# Altium footprint library SLAYER_Altium_Pcb.PcbLib: 31 footprints (part 2 of 2)
Each footprint in its own frame and in the unit in brackets; x right, y up, seen from the top. Pads: shape width x height; smd on the part's side, far side on the other; paste and mask are expansions set on the pad; w line width, h text height; cw(c..) or ccw(c..) is an arc to the next point about the centre after c.
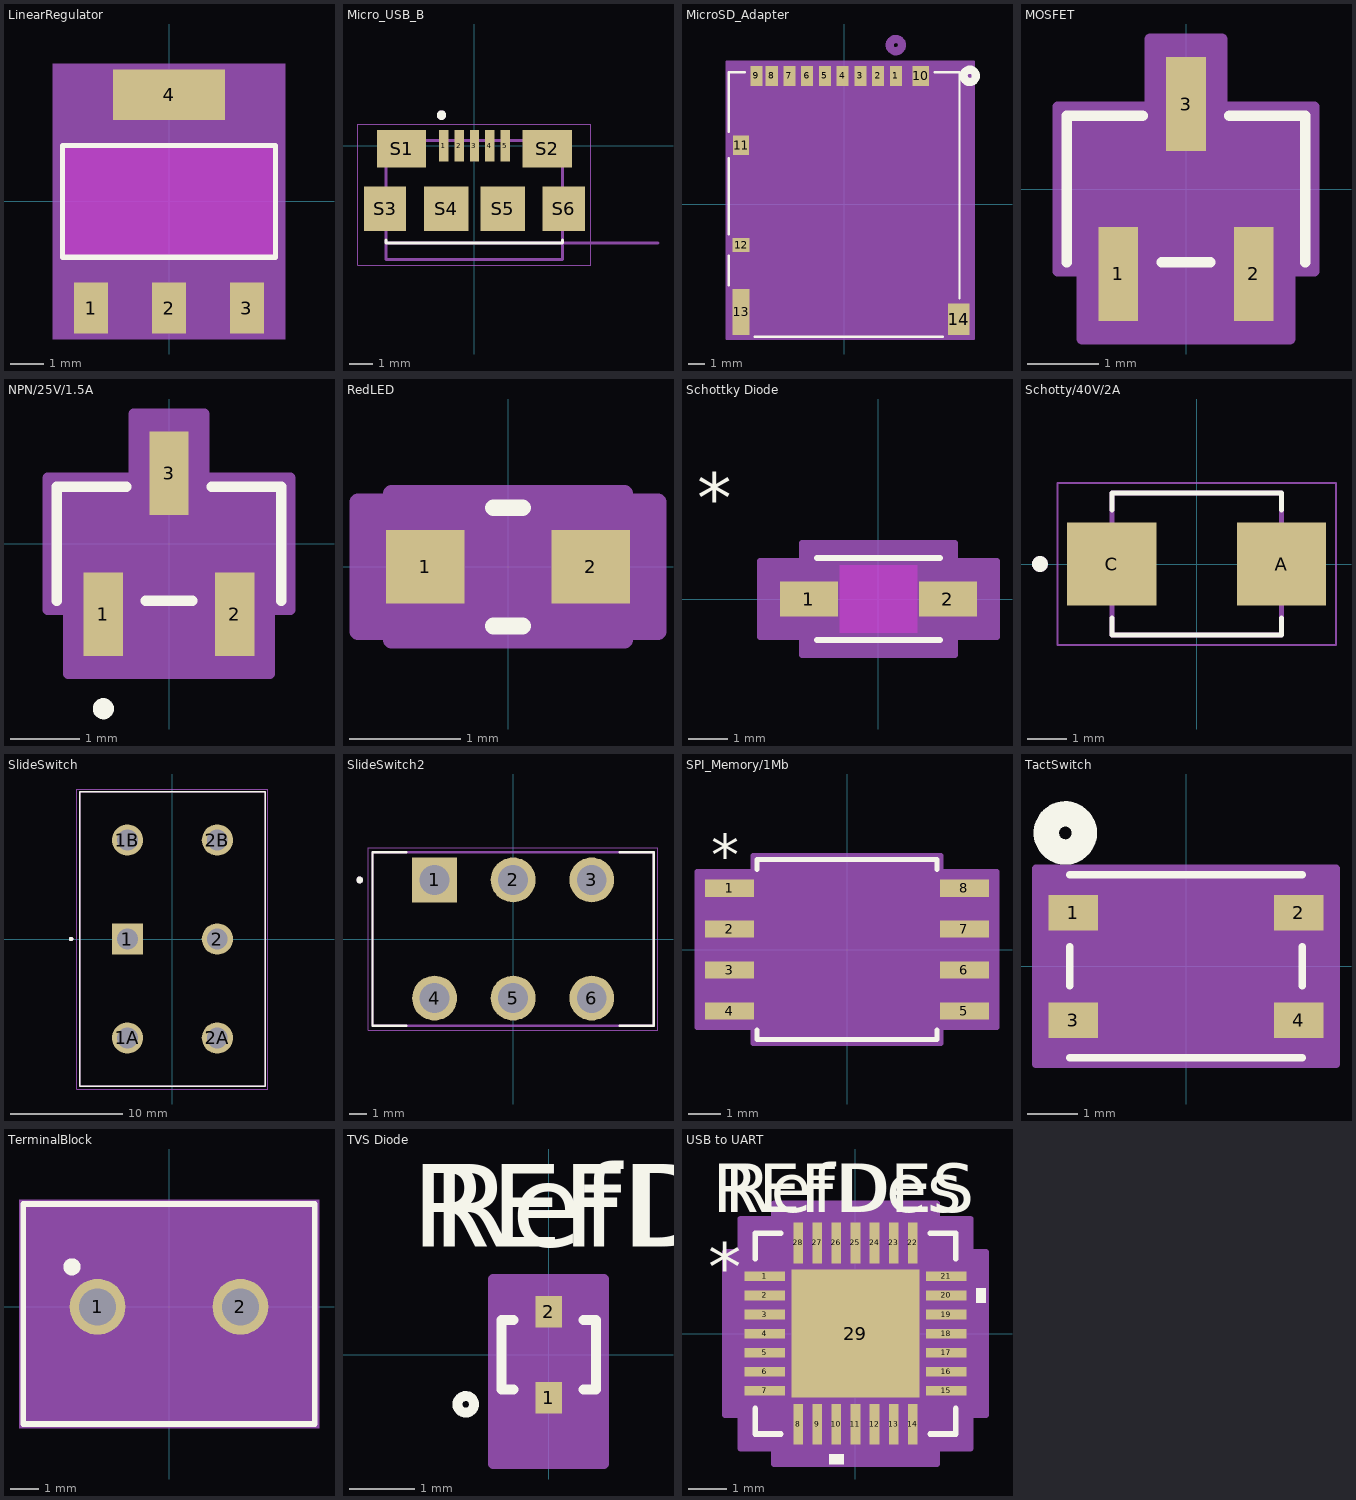
[diagram p1: the footprints below, top view; thin cyan lines are the x and y axes]

## LinearRegulator [mm] "SGM2212-3.3XKC3G/TR"
pads (4):
  rect 1x1.5 smd paste+0 mask+0: 1(-2.3,-3.15) 2(0,-3.15) 3(2.3,-3.15)
  rect 3.3x1.5 smd paste+0 mask+0: 4(0,3.15)
Top Overlay:
  lines w0.152: -3.15,-1.65 3.15,-1.65 3.15,1.65 -3.15,1.65 -3.15,-1.65
Keep-Out Layer:
  rectangle: -3.15,-1.65 3.15,1.65
Mechanical 15:
  region: -3.429,4.064 3.429,4.064 3.429,-4.064 -3.429,-4.064

## Micro_USB_B [mm] "10118192-0002LF"
height 2.8
pads (11):
  rect 0.4x1.35 smd: 1(-1.3,0) 2(-0.65,0) 3(0,0) 4(0.65,0) 5(1.3,0)
  rect 2.1x1.6 smd: S1(-3.1,-0.125) S2(3.1,-0.125)
  rect 1.8x1.9 smd: S3(-3.8,-2.675) S6(3.8,-2.675)
  rect 1.9x1.9 smd: S4(-1.2,-2.675) S5(1.2,-2.675)
Top Overlay:
  circle w0.2: c-1.4,1.3 r0.1
  lines w0.127: -3.75,-4 -3.75,-4.125 3.75,-4.125 3.75,-4
Mechanical 13:
  circle w0.2: c-1.4,1.3 r0.1
  lines w0.127: 7.8,-4.125 3.75,-4.125 ; -3.75,-4.125 3.75,-4.125 ; -3.75,-4.125 -3.75,0.225 3.75,0.225 3.75,-4.125 ; -3.75,-4.125 -3.75,-4.825 3.75,-4.825 3.75,-4.125
  text "PCB Edge" at 5.1,-3.8 h0.41
Mechanical 15:
  lines w0.05: -4.95,-5.075 -4.95,0.925 4.95,0.925 4.95,-5.075 -4.95,-5.075
3D body "step_temp.STEP": height 2.7, standoff 0, extent -3.95,-4.825 3.95,0.275

## MicroSD_Adapter [mm] "DM3AT-SF-PEJM5"
pads (14):
  rect 0.75x1.25 smd paste+0 mask+0: 1(3.2,7.975) 2(2.1,7.975) 3(1,7.975) 4(-0.1,7.975) 5(-1.2,7.975) 6(-2.3,7.975) 7(-3.4,7.975) 8(-4.5,7.975) 9(-5.45,7.975)
  rect 1.05x1.25 smd paste-0.625 mask-0.622: 10(4.75,7.975)
  rect 1x1.2 smd paste-0.6 mask-0.597: 11(-6.4,3.675)
  rect 1.05x0.85 smd paste-0.525 mask-0.521: 12(-6.4,-2.525)
  rect 1.05x2.85 smd paste-1.425 mask-1.422: 13(-6.4,-6.675)
  rect 1.35x1.95 smd paste-0.975 mask-0.978: 14(7.1,-7.125)
Top Overlay:
  circle w0.508: c7.787,7.975 r0.381
  lines w0.152: -7.152,-5.007 -7.152,-3.193 ; -7.152,-1.857 -7.152,2.858 ; -7.152,4.492 -7.152,8.202 -6.158,8.202 ; -5.558,-8.202 6.108,-8.202 ; 5.608,8.202 7.152,8.202 7.152,-5.817
  text ".Designator" at -10.604,9.372 h1.27
Bottom Overlay:
  circle w0.508: c7.787,7.975 r0.381
Mechanical 13:
  circle w0.508: c3.2,9.88 r0.381
  lines w0.025: -7.025,-8.075 -7.025,8.075 7.025,8.075 7.025,-8.075 -7.025,-8.075
  text ".Designator" at -10.604,9.372 h1.27
Mechanical 15:
  region: 8.029,8.854 -7.279,8.854 -7.279,-8.354 8.029,-8.354
  lines w0.152: -7.279,-8.354 8.029,-8.354 8.029,8.854 -7.279,8.854 -7.279,-8.354

## MOSFET [mil] "AO3400A"
pads (3):
  rect 22x52 smd paste+0 mask+0: 1(-37.5,-47) 2(37.5,-47) 3(0,47)
Top Overlay:
  lines w6: -66,-40.5 -66,40.5 -24.1,40.5 ; -13.4,-40.5 13.4,-40.5 ; 24.1,40.5 66,40.5 66,-40.5
  text ".Designator" at -137.5,-25 h50
Mechanical 13:
  lines w1: -61,-35.5 -61,35.5 61,35.5 61,-35.5 -61,-35.5 ; -47.5,-59 -27.5,-59 -27.5,-35.5 -47.5,-35.5 -47.5,-59 ; -10,35.5 -10,59 10,59 10,35.5 -10,35.5 ; 27.5,-59 47.5,-59 47.5,-35.5 27.5,-35.5 27.5,-59
  text ".Designator" at -137.5,-25 h50
Mechanical 15:
  region: -71,-45.5 -71,45.5 -20,45.5 -20,83 20,83 20,45.5 71,45.5 71,-45.5 57.5,-45.5 57.5,-83 -57.5,-83 -57.5,-45.5
  lines w6: -71,-45.5 -57.5,-45.5 -57.5,-83 57.5,-83 57.5,-45.5 71,-45.5 71,45.5 20,45.5 20,83 -20,83 -20,45.5 -71,45.5 -71,-45.5
3D body "SOT-23-3L_AOS.step": height 49.09, standoff 0, extent -60.98,-59.02 60.98,59.02

## NPN/25V/1.5A [mm] "SS8050-G"
pads (3):
  rect 0.568x1.208 smd paste+0 mask+0: 1(-0.95,-1.021) 2(0.95,-1.021) 3(0,1.021)
Top Overlay:
  circle w0.152: c-0.95,-2.387 r0.076
  lines w0.152: -1.626,-0.826 -1.626,0.826 -0.617,0.826 ; -0.333,-0.826 0.333,-0.826 ; 0.617,0.826 1.626,0.826 1.626,-0.826
  text ".Designator" at -3.365,2.159 h1.27
Mechanical 13:
  circle w0.025: c-0.95,-0.445 r0.076
  lines w0.025: -1.499,-0.699 -1.499,0.699 1.499,0.699 1.499,-0.699 -1.499,-0.699 ; -1.204,-1.275 -0.696,-1.275 -0.696,-0.699 -1.204,-0.699 -1.204,-1.275 ; -0.254,0.699 -0.254,1.275 0.254,1.275 0.254,0.699 -0.254,0.699 ; 0.696,-1.275 1.204,-1.275 1.204,-0.699 0.696,-0.699 0.696,-1.275
  text ".Designator" at -3.365,2.159 h1.27
Mechanical 15:
  region: -1.753,-0.953 -1.753,0.953 -0.508,0.953 -0.508,1.879 0.508,1.879 0.508,0.953 1.753,0.953 1.753,-0.953 1.458,-0.953 1.458,-1.879 -1.458,-1.879 -1.458,-0.953
  lines w0.152: -1.753,-0.953 -1.458,-0.953 -1.458,-1.879 1.458,-1.879 1.458,-0.953 1.753,-0.953 1.753,0.953 0.508,0.953 0.508,1.879 -0.508,1.879 -0.508,0.953 -1.753,0.953 -1.753,-0.953
3D body "TRAN_SS8050-G_CIP.step": height 1.04, standoff 0, extent -1.499,-1.275 1.499,1.275

## RedLED [mm] "LTST-C190KRKT"
pads (2):
  rect 0.706x0.661 smd paste+0 mask+0: 1(-0.747,0) 2(0.747,0)
Top Overlay:
  lines w0.152: -0.13,-0.533 0.13,-0.533 ; -0.13,0.533 0.13,0.533
  text ".Designator" at -3.619,0.889 h1.27
Mechanical 13:
  circle w0.025: c-0.394,0 r0.076
  lines w0.025: -0.305,0.406 ccw(c0,0.406) 0.305,0.406 ; -0.8,-0.406 -0.8,0.406 0.8,0.406 0.8,-0.406 -0.8,-0.406
  text ".Designator" at -3.619,0.889 h1.27
Mechanical 15:
  region: -1.054,-0.585 -1.354,-0.585 -1.354,0.585 -1.054,0.585 -1.054,0.66 1.054,0.66 1.054,0.585 1.354,0.585 1.354,-0.585 1.054,-0.585 1.054,-0.66 -1.054,-0.66
  lines w0.152: -1.354,-0.585 -1.054,-0.585 -1.054,-0.66 1.054,-0.66 1.054,-0.585 1.354,-0.585 1.354,0.585 1.054,0.585 1.054,0.66 -1.054,0.66 -1.054,0.585 -1.354,0.585 -1.354,-0.585
3D body "LED_LTST-C190_LTO.step": height 0.81, standoff 0, extent -0.8,-0.406 0.8,0.406

## Schottky Diode [mm] "B5819W-TP"
pads (2):
  rect 1.457x0.887 smd paste+0 mask+0: 1(-1.752,0) 2(1.752,0)
Top Overlay:
  lines w0.152: -1.549,-1.029 1.549,-1.029 ; -1.549,1.029 1.549,1.029
  text ".Designator" at -3.365,1.905 h1.27
  text "*" at -4.572,1.905 h1.27
Keep-Out Layer:
  region: -0.972,-0.851 -0.972,0.851 0.972,0.851 0.972,-0.851
Mechanical 13:
  lines w0.025: -1.422,-0.451 -0.972,-0.902 ; -1.422,0.451 -0.972,0.902 ; -1.93,-0.394 -1.422,-0.394 -1.422,0.394 -1.93,0.394 -1.93,-0.394 ; -1.422,-0.902 -1.422,0.902 1.422,0.902 1.422,-0.902 -1.422,-0.902 ; 1.422,-0.394 1.93,-0.394 1.93,0.394 1.422,0.394 1.422,-0.394
  text ".Designator" at -3.365,1.905 h1.27
  text "*" at -1.486,-0.635 h1.27
Mechanical 15:
  region: -1.93,-0.952 -2.988,-0.952 -2.988,0.952 -1.93,0.952 -1.93,1.41 1.93,1.41 1.93,0.952 2.988,0.952 2.988,-0.952 1.93,-0.952 1.93,-1.41 -1.93,-1.41
  lines w0.152: -2.988,-0.952 -1.93,-0.952 -1.93,-1.41 1.93,-1.41 1.93,-0.952 2.988,-0.952 2.988,0.952 1.93,0.952 1.93,1.41 -1.93,1.41 -1.93,0.952 -2.988,0.952 -2.988,-0.952
3D body "SDO_SOD-123_MCC.step": height 1.5, standoff 0, extent -1.93,-0.902 1.93,0.902

## Schotty/40V/2A [mm] "SS24"
height 2.65
pads (2):
  rect 2.28x2.12 smd: A(2.165,0) C(-2.165,0)
Top Overlay:
  circle w0.2: c-4,0 r0.1
  lines w0.127: -2.163,-1.38 -2.163,-1.813 2.163,-1.813 2.163,-1.38 ; -2.163,1.38 -2.163,1.813 2.163,1.813 2.163,1.38
Mechanical 13:
  circle w0.2: c-4,0 r0.1
  lines w0.127: -2.163,-1.813 -2.163,1.813 2.163,1.813 2.163,-1.813 -2.163,-1.813
Mechanical 15:
  lines w0.05: -3.555,-2.063 -3.555,2.063 3.555,2.063 3.555,-2.063 -3.555,-2.063
3D body "step_temp.STEP": height 2.65, standoff 0, extent -2.675,-1.813 2.675,1.813

## SlideSwitch [mm] "V80212MS02Q"
height 15.75
pads (6):
  rect 2.775x2.775 / inner round 2.775 / far side rect 2.775x2.775 hole 1.85: 1(-4,0)
  round 2.775 hole 1.85: 1A(-4,-8.8) 1B(-4,8.8) 2(4,0) 2A(4,-8.8) 2B(4,8.8)
Top Overlay:
  circle w0.2: c-9,0 r0.1
  lines w0.127: -8.25,-13.095 -8.25,13.095 8.25,13.095 8.25,-13.095 -8.25,-13.095
Mechanical 13:
  circle w0.2: c-9,0 r0.1
  lines w0.127: -8.25,-13.095 -8.25,13.095 8.25,13.095 8.25,-13.095 -8.25,-13.095
Mechanical 15:
  lines w0.05: -8.5,-13.345 -8.5,13.345 8.5,13.345 8.5,-13.345 -8.5,-13.345

## SlideSwitch2 [mm] "SW_GF-126-0159"
pads (6):
  rect 2.625x2.625 / inner round 2.625 / far side rect 2.625x2.625 hole 1.75: 1(-4.6,3.455)
  round 2.625 hole 1.75: 2(0,3.455) 3(4.6,3.455) 4(-4.6,-3.455) 5(0,-3.455) 6(4.6,-3.455)
Top Overlay:
  circle w0.2: c-8.98,3.455 r0.1
  lines w0.127: -6.232,-5.08 -8.23,-5.08 -8.23,5.08 -6.232,5.08 ; 6.232,-5.08 8.23,-5.08 8.23,5.08 6.232,5.08
Mechanical 13:
  circle w0.2: c-8.98,3.455 r0.1
  lines w0.127: -8.23,-5.08 -8.23,5.08 8.23,5.08 8.23,-5.08 -8.23,-5.08
Mechanical 15:
  lines w0.05: -8.48,-5.33 8.48,-5.33 8.48,5.33 -8.48,5.33 -8.48,-5.33

## SPI_Memory/1Mb [mil] "W25Q128JVSIQ"
pads (8):
  rect 59.56x20.97 smd paste+0 mask+0: 1(-143.5,75) 2(-143.5,25) 3(-143.5,-25) 4(-143.5,-75) 5(143.5,-75) 6(143.5,-25) 7(143.5,25) 8(143.5,75)
Top Overlay:
  lines w6: -110,-98.04 -110,-110 110,-110 110,-98.04 ; -110,98.04 -110,110 110,110 110,98.04
  text ".Designator" at -137.5,120 h50
  text "*" at -166,90.97 h50
Mechanical 13:
  lines w1: -12,105 ccw(c0,105) 12,105 ; -159.5,-84.5 -159.5,-65.5 -105,-65.5 -105,-84.5 -159.5,-84.5 ; -159.5,-34.5 -159.5,-15.5 -105,-15.5 -105,-34.5 -159.5,-34.5 ; -159.5,15.5 -159.5,34.5 -105,34.5 -105,15.5 -159.5,15.5 ; -159.5,65.5 -159.5,84.5 -105,84.5 -105,65.5 -159.5,65.5 ; -105,-105 105,-105 105,105 -105,105 -105,-105 ; 105,-84.5 105,-65.5 159.5,-65.5 159.5,-84.5 105,-84.5 ; 105,-34.5 105,-15.5 159.5,-15.5 159.5,-34.5 105,-34.5 ; 105,15.5 105,34.5 159.5,34.5 159.5,15.5 105,15.5 ; 105,65.5 105,84.5 159.5,84.5 159.5,65.5 105,65.5
  text "*" at -102.5,52 h50
  text ".Designator" at -137.5,120 h50
Mechanical 15:
  region: -115,-95.48 -183.28,-95.48 -183.28,95.48 -115,95.48 -115,115 115,115 115,95.48 183.28,95.48 183.28,-95.48 115,-95.48 115,-115 -115,-115
  lines w6: -183.28,-95.48 -183.28,95.48 -115,95.48 -115,115 115,115 115,95.48 183.28,95.48 183.28,-95.48 115,-95.48 115,-115 -115,-115 -115,-95.48 -183.28,-95.48
3D body "SOIC_128JVSIQ_WIN.step": height 85.12, standoff 0, extent -159.49,-105 159.49,105

## TactSwitch [mm] "PTS815 SJM 250 SMTR LFS"
pads (4):
  rect 0.991x0.711 smd paste+0 mask+0: 1(-2.25,1.075) 2(2.25,1.075) 3(-2.25,-1.075) 4(2.25,-1.075)
Top Overlay:
  circle w0.508: c-2.413,2.667 r0.381
  lines w0.152: -2.324,-1.829 2.324,-1.829 ; -2.324,-0.387 -2.324,0.387 ; -2.324,1.829 2.324,1.829 ; 2.324,-0.387 2.324,0.387
  text ".Designator" at -3.365,2.159 h1.27
Bottom Overlay:
  circle w0.508: c-2.413,2.667 r0.381
Mechanical 13:
  circle w0.508: c-2.25,1.075 r0.381
  lines w0.025: -2.197,-1.702 2.197,-1.702 2.197,1.702 -2.197,1.702 -2.197,-1.702
  text ".Designator" at -3.365,2.159 h1.27
Mechanical 15:
  region: 2.999,1.956 -2.999,1.956 -2.999,-1.956 2.999,-1.956
  lines w0.152: -2.999,-1.956 -2.999,1.956 2.999,1.956 2.999,-1.956 -2.999,-1.956

## TerminalBlock [mm] "691137710002"
pads (2):
  round 1.95 hole 1.3: 1(-2.5,0) 2(2.5,0)
Top Overlay:
  circle w0.4: c-3.4,1.4 r0.1
  lines w0.2: -5.1,-4.1 5.1,-4.1 5.1,3.6 -5.1,3.6 -5.1,-4.1
Mechanical 13:
  lines w0.1: -5,-4 5,-4 5,3.5 -5,3.5 -5,-4
Mechanical 15:
  region: 5.25,-4.25 -5.25,-4.25 -5.25,3.75 5.25,3.75

## TVS Diode [mil] "ESD5B5.0ST1G"
pads (2):
  rect 16x19 smd paste+0 mask+0: 1(0,-26) 2(0,26)
Top Overlay:
  circle w6: c-50,-30 r5
  lines w6: -21.1,-21 -28.5,-21 -28.5,21 -21.1,21 ; 21.1,-21 28.5,-21 28.5,21 21.1,21
  text "RefDes" at -70,65 h50
  text "REFDES" at -82.5,65 h50
Mechanical 13:
  circle w0: c-3.5,-26 r5
  lines w1: -23.5,-16 -23.5,16 23.5,16 23.5,-16 -23.5,-16
  text "RefDes2" at -82.5,65 h50
Mechanical 15:
  region: 33.5,-66 -33.5,-66 -33.5,45.5 33.5,45.5
  lines w6: -33.5,-66 33.5,-66 33.5,45.5 -33.5,45.5 -33.5,-66

## USB to UART [mil] "CP2102N-A02-GQFN28"
pads (29):
  rect 42x10 smd paste+0 mask+0: 1(-93.5,59.06) 2(-93.5,39.37) 3(-93.5,19.68) 4(-93.5,0) 5(-93.5,-19.68) 6(-93.5,-39.37) 7(-93.5,-59.06) 15(93.5,-59.06) 16(93.5,-39.37) 17(93.5,-19.68) 18(93.5,0) 19(93.5,19.68) 20(93.5,39.37) 21(93.5,59.06)
  rect 10x42 smd paste+0 mask+0: 8(-59.06,-93.5) 9(-39.37,-93.5) 10(-19.68,-93.5) 11(0,-93.5) 12(19.68,-93.5) 13(39.37,-93.5) 14(59.06,-93.5) 22(59.06,93.5) 23(39.37,93.5) 24(19.68,93.5) 25(0,93.5) 26(-19.68,93.5) 27(-39.37,93.5) 28(-59.06,93.5)
  rect 132x132 smd paste-66 mask+0: 29(0,0)
Top Overlay:
  region: -12.19,-124.5 -27.18,-124.5 -27.18,-134.5 -12.19,-134.5
  region: 124.5,46.87 134.5,46.87 134.5,31.87 124.5,31.87
  lines w6: -103.5,-77.16 -103.5,-103.5 -77.16,-103.5 ; -103.5,77.16 -103.5,103.5 -77.16,103.5 ; 77.16,-103.5 103.5,-103.5 103.5,-77.16 ; 77.16,103.5 103.5,103.5 103.5,77.16
  text "*" at -152,43.9 h50
  text "RefDes" at -135,125 h50
  text "REFDES" at -147.5,125 h50
Top Paste:
  region: -3.94,62.06 -62.06,62.06 -62.06,3.94 -3.94,3.94
  region: -3.94,-3.94 -62.06,-3.94 -62.06,-62.06 -3.94,-62.06
  region: 62.06,62.06 3.94,62.06 3.94,3.94 62.06,3.94
  region: 62.06,-3.94 3.94,-3.94 3.94,-62.06 62.06,-62.06
Mechanical 13:
  lines w1: -98.5,48.5 -48.5,98.5 ; -98.5,-98.5 98.5,-98.5 98.5,98.5 -98.5,98.5 -98.5,-98.5 ; -98.5,-65.06 -98.5,-53.06 -98.5,-65.06 ; -98.5,-45.37 -98.5,-33.37 -98.5,-45.37 ; -98.5,-25.68 -98.5,-13.69 -98.5,-25.68 ; -98.5,-6 -98.5,6 -98.5,-6 ; -98.5,13.69 -98.5,25.68 -98.5,13.69 ; -98.5,33.37 -98.5,45.37 -98.5,33.37 ; -98.5,53.06 -98.5,65.06 -98.5,53.06 ; -65.06,-98.5 -53.06,-98.5 -65.06,-98.5 ; -65.06,98.5 -53.06,98.5 -65.06,98.5 ; -45.37,-98.5 -33.37,-98.5 -45.37,-98.5 ; -45.37,98.5 -33.37,98.5 -45.37,98.5 ; -25.68,-98.5 -13.69,-98.5 -25.68,-98.5 ; -25.68,98.5 -13.69,98.5 -25.68,98.5 ; -6,-98.5 6,-98.5 -6,-98.5 ; -6,98.5 6,98.5 -6,98.5 ; 13.69,-98.5 25.68,-98.5 13.69,-98.5 ; 13.69,98.5 25.68,98.5 13.69,98.5 ; 33.37,-98.5 45.37,-98.5 33.37,-98.5 ; 33.37,98.5 45.37,98.5 33.37,98.5 ; 53.06,-98.5 65.06,-98.5 53.06,-98.5 ; 53.06,98.5 65.06,98.5 53.06,98.5 ; 98.5,-65.06 98.5,-53.06 98.5,-65.06 ; 98.5,-45.37 98.5,-33.37 98.5,-45.37 ; 98.5,-25.68 98.5,-13.69 98.5,-25.68 ; 98.5,-6 98.5,6 98.5,-6 ; 98.5,13.69 98.5,25.68 98.5,13.69 ; 98.5,33.37 98.5,45.37 98.5,33.37 ; 98.5,53.06 98.5,65.06 98.5,53.06
  text "*" at -85,43.9 h50
  text "RefDes2" at -147.5,125 h50
Mechanical 15:
  region: -84.06,-118.5 -118.5,-118.5 -118.5,-84.06 -134.5,-84.06 -134.5,84.06 -118.5,84.06 -118.5,118.5 -84.06,118.5 -84.06,134.5 84.06,134.5 84.06,118.5 118.5,118.5 118.5,84.06 134.5,84.06 134.5,-84.06 118.5,-84.06 118.5,-118.5 84.06,-118.5 84.06,-134.5 -84.06,-134.5
  lines w6: -134.5,-84.06 -118.5,-84.06 -118.5,-118.5 -84.06,-118.5 -84.06,-134.5 84.06,-134.5 84.06,-118.5 118.5,-118.5 118.5,-84.06 134.5,-84.06 134.5,84.06 118.5,84.06 118.5,118.5 84.06,118.5 84.06,134.5 -84.06,134.5 -84.06,118.5 -118.5,118.5 -118.5,84.06 -134.5,84.06 -134.5,-84.06
3D body "QFN28_5X5_SIL.step": height 32.09, standoff 0, extent -98.5,-98.5 98.5,98.5